# Altium footprint library RPi_sensor_expansion_board.PcbLib: 10 footprints
Each footprint in its own frame and in the unit in brackets; x right, y up, seen from the top. Pads: shape width x height; smd on the part's side, far side on the other; paste and mask are expansions set on the pad; w line width, h text height; cw(c..) or ccw(c..) is an arc to the next point about the centre after c.
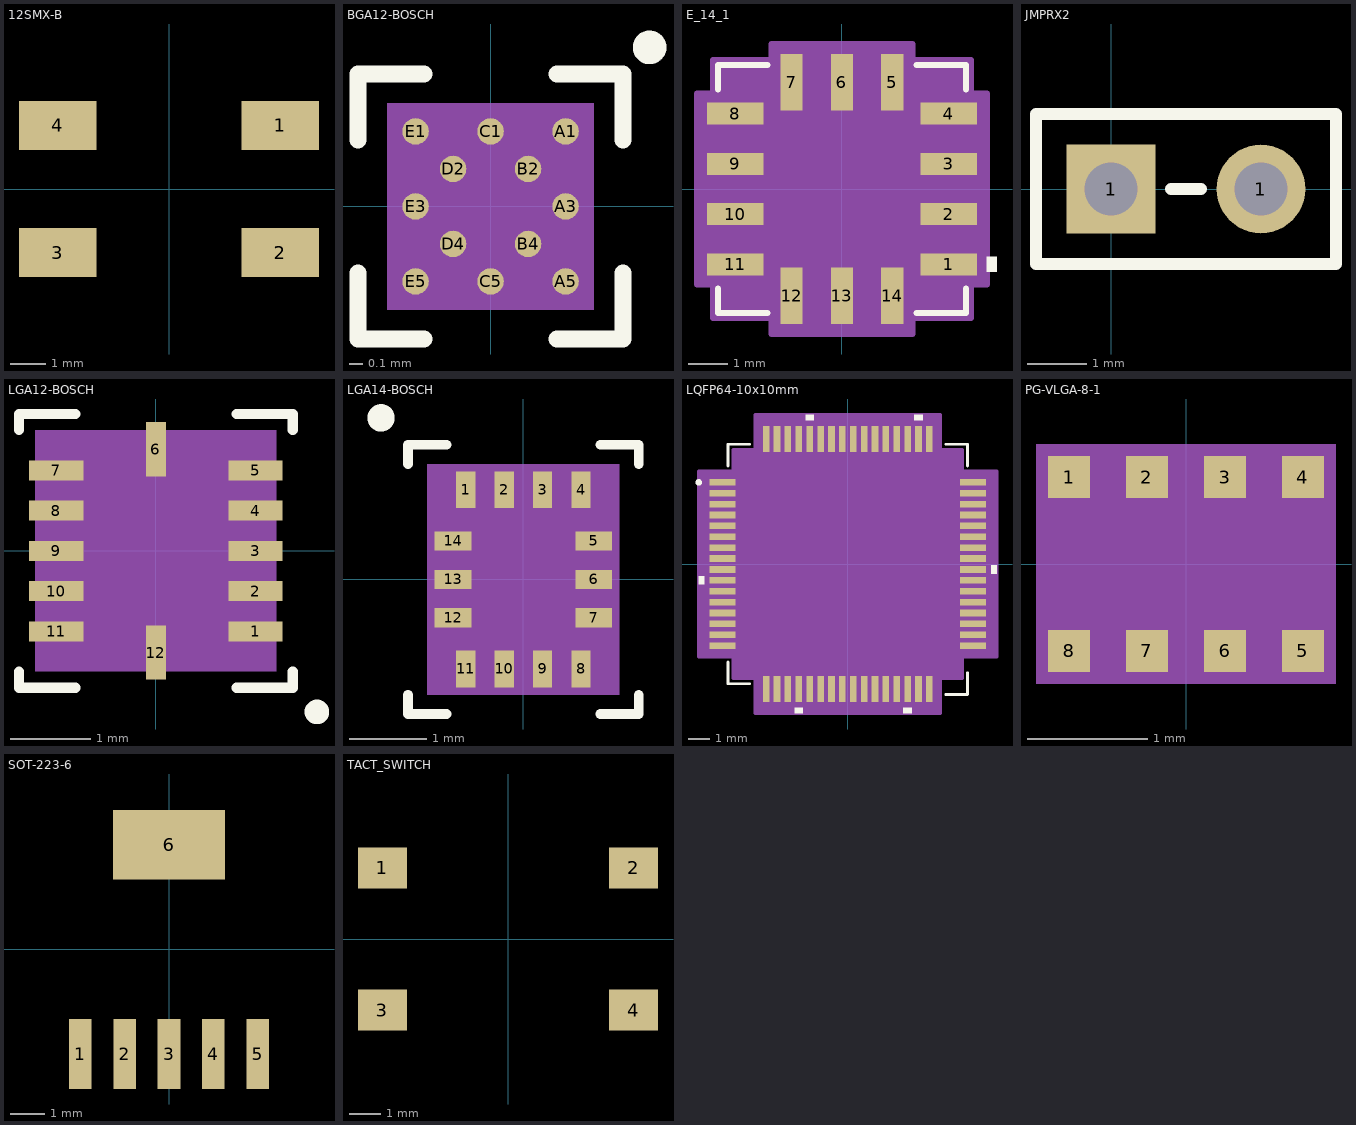
[diagram p0: the footprints below, top view; thin cyan lines are the x and y axes]

## 12SMX-B [mm] "B-type 12SMX crystal package"
pads (4):
  rect 2.2x1.4 smd: 1(3.15,1.8) 2(3.15,-1.8) 3(-3.15,-1.8) 4(-3.15,1.8)
3D body "User Library-GeyerElectronics_KX13.step": height 1.31, standoff 0, extent -3.5,-2.5 3.5,2.5

## BGA12-BOSCH [mm]
pads (12):
  round 0.2 smd: A1(0.566,0.566) A3(0.566,0) A5(0.566,-0.566) B2(0.283,0.283) B4(0.283,-0.283) C1(0,0.566) C5(0,-0.566) D2(-0.283,0.283) D4(-0.283,-0.283) E1(-0.566,0.566) E3(-0.566,0) E5(-0.566,-0.566)
Top Overlay:
  circle w0.127: c1.2,1.2 r0.064
  lines w0.127: -1,-0.5 -1,-1 -0.5,-1 ; -1,0.5 -1,1 -0.5,1 ; 0.5,-1 1,-1 1,-0.5 ; 0.5,1 1,1 1,0.5
Mechanical 15:
  rectangle: -0.78,-0.78 0.78,0.78
3D body: height 0.25, standoff 0, extent -0.676,-0.123 -0.434,0.123
3D body: height 0.25, standoff 0, extent -0.676,0.436 -0.434,0.682
3D body: height 0.25, standoff 0, extent 0.441,0.436 0.684,0.682
3D body: height 0.25, standoff 0, extent -0.117,0.436 0.125,0.682
3D body: height 0.25, standoff 0, extent 0.162,0.156 0.405,0.403
3D body: height 0.25, standoff 0, extent 0.441,-0.123 0.684,0.123
3D body: height 0.25, standoff 0, extent 0.442,-0.682 0.684,-0.435
3D body: height 0.25, standoff 0, extent 0.162,-0.402 0.405,-0.156
3D body: height 0.25, standoff 0, extent -0.676,-0.682 -0.434,-0.435
3D body: height 0.25, standoff 0, extent -0.397,-0.402 -0.154,-0.156
3D body: height 0.25, standoff 0, extent -0.397,0.156 -0.154,0.403
3D body: height 0.25, standoff 0, extent -0.117,-0.682 0.125,-0.435
3D body: height 0.6, standoff 0.2, extent -0.774,-0.779 0.781,0.776
3D body: height 0.65, standoff 0.55, extent 0.632,0.632 0.725,0.718

## E_14_1 [mil]
pads (14):
  rect 55.98x22 smd: 1(106.12,-75) 2(106.12,-25) 3(106.12,25) 4(106.12,75) 8(-106.12,75) 9(-106.12,25) 10(-106.12,-25) 11(-106.12,-75)
  rect 22x55.98 smd: 5(50,106.12) 6(0,106.12) 7(-50,106.12) 12(-50,-106.12) 13(0,-106.12) 14(50,-106.12)
Top Overlay:
  region: 144.11,-67.5 154.11,-67.5 154.11,-82.5 144.11,-82.5
  lines w6: -123.11,-99.1 -123.11,-123.11 -74.1,-123.11 ; -123.11,99.1 -123.11,123.11 -74.1,123.11 ; 74.1,-123.11 123.11,-123.11 123.11,-99.1 ; 74.1,123.11 123.11,123.11 123.11,99.1
Mechanical 15:
  region: -70,-128.11 -128.11,-128.11 -128.11,-95 -144.11,-95 -144.11,95 -128.11,95 -128.11,128.11 -70,128.11 -70,144.11 70,144.11 70,128.11 128.11,128.11 128.11,95 144.11,95 144.11,-95 128.11,-95 128.11,-128.11 70,-128.11 70,-144.11 -70,-144.11
  lines w6: -144.11,-95 -128.11,-95 -128.11,-128.11 -70,-128.11 -70,-144.11 70,-144.11 70,-128.11 128.11,-128.11 128.11,-95 144.11,-95 144.11,95 128.11,95 128.11,128.11 70,128.11 70,144.11 -70,144.11 -70,128.11 -128.11,128.11 -128.11,95 -144.11,95 -144.11,-95
3D body: height 98.43, standoff 78.74, extent 78.74,-98.27 98.43,-78.89
3D body: height 88.58, standoff 5.91, extent -118.11,-118.11 118.11,118.11

## JMPRX2 [mm] "Jumper; Header; 2 Position"
pads (2):
  rect 1.5x1.5 hole 0.9: 1(0,0)
  round 1.5 hole 0.9: 1(2.54,0)
Top Overlay:
  lines w0.2: 1.016,0 1.524,0 ; -1.27,-1.27 3.81,-1.27 3.81,1.27 -1.27,1.27 -1.27,-1.27

## LGA12-BOSCH [mm]
pads (12):
  rect 0.675x0.25 smd: 1(1.238,-1) 2(1.238,-0.5) 3(1.238,0) 4(1.238,0.5) 5(1.238,1) 7(-1.238,1) 8(-1.238,0.5) 9(-1.238,0) 10(-1.238,-0.5) 11(-1.238,-1)
  rect 0.25x0.675 smd: 6(0,1.262) 12(0,-1.262)
Top Overlay:
  circle w0.254: c2,-2 r0.025
  lines w0.127: -1.7,-1.5 -1.7,-1.7 -1,-1.7 ; -1.7,1.5 -1.7,1.7 -1,1.7 ; 1,-1.7 1.7,-1.7 1.7,-1.5 ; 1,1.7 1.7,1.7 1.7,1.5
Mechanical 15:
  rectangle: -1.5,-1.5 1.5,1.5
3D body: height 0.15, standoff 0, extent -0.125,0.925 0.125,1.5
3D body: height 0.15, standoff 0, extent -1.5,0.875 -0.9,1.125
3D body: height 0.15, standoff 0, extent -1.5,0.375 -0.9,0.625
3D body: height 0.15, standoff 0, extent -1.5,-0.125 -0.9,0.125
3D body: height 0.15, standoff 0, extent -1.5,-0.625 -0.9,-0.375
3D body: height 0.15, standoff 0, extent -1.5,-1.125 -0.9,-0.875
3D body: height 0.15, standoff 0, extent -0.125,-1.5 0.125,-0.925
3D body: height 0.15, standoff 0, extent 0.9,-1.125 1.5,-0.875
3D body: height 0.15, standoff 0, extent 0.9,-0.625 1.5,-0.375
3D body: height 0.15, standoff 0, extent 0.9,-0.125 1.5,0.125
3D body: height 0.15, standoff 0, extent 0.9,0.375 1.5,0.625
3D body: height 0.15, standoff 0, extent 0.9,0.875 1.5,1.125
3D body: height 1, standoff 0.15, extent -1.5,-1.5 1.5,1.5
3D body: height 1.1, standoff 0.9, extent 1.156,-1.348 1.35,-1.151

## LGA14-BOSCH [mm]
pads (14):
  rect 0.25x0.475 smd: 1(-0.75,1.165) 2(-0.25,1.165) 3(0.25,1.165) 4(0.75,1.165) 8(0.75,-1.165) 9(0.25,-1.165) 10(-0.25,-1.165) 11(-0.75,-1.165)
  rect 0.475x0.25 smd: 5(0.915,0.5) 6(0.915,0) 7(0.915,-0.5) 12(-0.915,-0.5) 13(-0.915,0) 14(-0.915,0.5)
Top Overlay:
  circle w0.254: c-1.85,2.1 r0.05
  lines w0.127: -1.5,-1.5 -1.5,-1.75 -1,-1.75 ; -1.5,1.5 -1.5,1.75 -1,1.75 ; 1,-1.75 1.5,-1.75 1.5,-1.5 ; 1,1.75 1.5,1.75 1.5,1.5
Mechanical 15:
  rectangle: -1.25,-1.5 1.25,1.5
3D body: height 0.25, standoff 0, extent -0.6,0.65 -0.6,0.65
3D body: height 0.25, standoff 0, extent 0.9,-1.25 0.9,-1.25
3D body: height 1, standoff 0.15, extent -1.25,-1.5 1.25,1.5

## LQFP64-10x10mm [mm]
pads (64):
  rect 1.194x0.305 smd: 1(-5.75,3.75) 2(-5.75,3.25) 3(-5.75,2.75) 4(-5.75,2.25) 5(-5.75,1.75) 6(-5.75,1.25) 7(-5.75,0.75) 8(-5.75,0.25) 9(-5.75,-0.25) 10(-5.75,-0.75) 11(-5.75,-1.25) 12(-5.75,-1.75) 13(-5.75,-2.25) 14(-5.75,-2.75) 15(-5.75,-3.25) 16(-5.75,-3.75) 33(5.75,-3.75) 34(5.75,-3.25) 35(5.75,-2.75) 36(5.75,-2.25) 37(5.75,-1.75) 38(5.75,-1.25) 39(5.75,-0.75) 40(5.75,-0.25) 41(5.75,0.25) 42(5.75,0.75) 43(5.75,1.25) 44(5.75,1.75) 45(5.75,2.25) 46(5.75,2.75) 47(5.75,3.25) 48(5.75,3.75)
  rect 0.305x1.194 smd: 17(-3.75,-5.75) 18(-3.25,-5.75) 19(-2.75,-5.75) 20(-2.25,-5.75) 21(-1.75,-5.75) 22(-1.25,-5.75) 23(-0.75,-5.75) 24(-0.25,-5.75) 25(0.25,-5.75) 26(0.75,-5.75) 27(1.25,-5.75) 28(1.75,-5.75) 29(2.25,-5.75) 30(2.75,-5.75) 31(3.25,-5.75) 32(3.75,-5.75) 49(3.75,5.75) 50(3.25,5.75) 51(2.75,5.75) 52(2.25,5.75) 53(1.75,5.75) 54(1.25,5.75) 55(0.75,5.75) 56(0.25,5.75) 57(-0.25,5.75) 58(-0.75,5.75) 59(-1.25,5.75) 60(-1.75,5.75) 61(-2.25,5.75) 62(-2.75,5.75) 63(-3.25,5.75) 64(-3.75,5.75)
Top Overlay:
  circle w0.152: c-6.851,3.75 r0.076
  region: -6.601,-0.56 -6.855,-0.56 -6.855,-0.941 -6.601,-0.941
  region: -2.06,-6.601 -2.441,-6.601 -2.441,-6.855 -2.06,-6.855
  region: 2.94,-6.601 2.559,-6.601 2.559,-6.855 2.94,-6.855
  region: 6.601,-0.059 6.855,-0.059 6.855,-0.44 6.601,-0.44
  region: 3.441,6.601 3.06,6.601 3.06,6.855 3.441,6.855
  region: -1.559,6.601 -1.94,6.601 -1.94,6.855 -1.559,6.855
  lines w0.127: -5.5,-4.5 -5.5,-5.5 -4.5,-5.5 ; -5.5,4.5 -5.5,5.5 -4.5,5.5 ; 4.5,-6 5.5,-6 5.5,-5 ; 4.5,5.5 5.5,5.5 5.5,4.5
Mechanical 13:
  circle w0: c-4.518,3.75 r0.076
Mechanical 15:
  region: -4.258,-5.258 -5.258,-5.258 -5.258,-4.258 -6.855,-4.258 -6.855,4.258 -5.258,4.258 -5.258,5.258 -4.258,5.258 -4.258,6.855 4.258,6.855 4.258,5.258 5.258,5.258 5.258,4.258 6.855,4.258 6.855,-4.258 5.258,-4.258 5.258,-5.258 4.258,-5.258 4.258,-6.855 -4.258,-6.855
  lines w0.152: -6.855,-4.258 -5.258,-4.258 -5.258,-5.258 -4.258,-5.258 -4.258,-6.855 4.258,-6.855 4.258,-5.258 5.258,-5.258 5.258,-4.258 6.855,-4.258 6.855,4.258 5.258,4.258 5.258,5.258 4.258,5.258 4.258,6.855 -4.258,6.855 -4.258,5.258 -5.258,5.258 -5.258,4.258 -6.855,4.258 -6.855,-4.258
3D body "User Library-LQFP64-1.STEP": height 1.56, standoff 0, extent -6,-6 6,6
3D body "LQFP64-10x10mm.stp": height 0, standoff 0, extent 0,0 0,0

## PG-VLGA-8-1 [mm]
pads (8):
  rect 0.35x0.35 smd: 1(-0.975,0.725) 2(-0.325,0.725) 3(0.325,0.725) 4(0.975,0.725) 5(0.975,-0.725) 6(0.325,-0.725) 7(-0.325,-0.725) 8(-0.975,-0.725)
Mechanical 15:
  rectangle: -1.25,-1 1.25,1
3D body: height 1.08, standoff 0.78, extent 0.834,-0.872 1.125,-0.577
3D body: height 1.03, standoff 0.83, extent -1.069,0.627 -0.875,0.824
3D body: height 0.93, standoff 0, extent -1.25,-1 1.25,1

## SOT-223-6 [mm]
pads (6):
  rect 0.65x2 smd: 1(-2.54,-3) 2(-1.27,-3) 3(0,-3) 4(1.27,-3) 5(2.54,-3)
  rect 3.2x2 smd: 6(0,3)
3D body "User Library-SOT-223-6.step": height 1.8, standoff 0, extent -3.275,-3.63 3.275,3.63

## TACT_SWITCH [mm] "6x6 mm SMT tact switch footprint"
height 5
pads (4):
  rect 1.55x1.3 smd: 1(-3.975,2.25) 2(3.975,2.25) 3(-3.975,-2.25) 4(3.975,-2.25)
3D body "User Library-TS-1150S-WP.step": height 5, standoff 0, extent -4,-3.25 4,3.25